# Altium footprint library Silabs Footprint.PcbLib: 7 footprints
Each footprint in its own frame and in the unit in brackets; x right, y up, seen from the top. Pads: shape width x height; smd on the part's side, far side on the other; paste and mask are expansions set on the pad; w line width, h text height; cw(c..) or ccw(c..) is an arc to the next point about the centre after c.
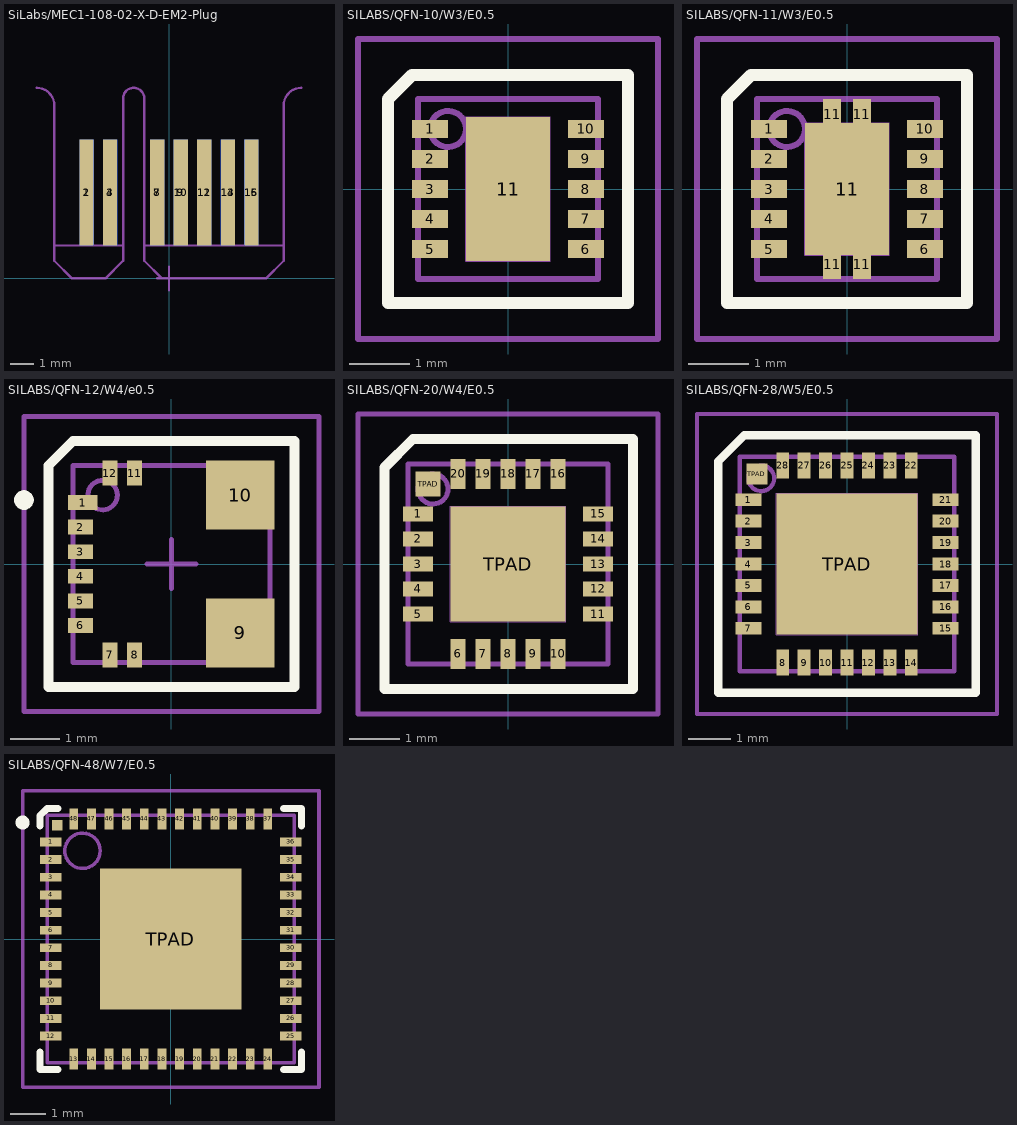
[diagram p0: the footprints below, top view; thin cyan lines are the x and y axes]

## SiLabs/MEC1-108-02-X-D-EM2-Plug [mm] "Samtec MEC1 Series; Technology PCB Edge; Body 22.45x13.36x6.81mm; Pitch 1.00mm;"
pads (14):
  rect 0.6x4.5 smd mask+0.1: 1(-3.5,3.65) 3(-2.5,3.65) 7(-0.5,3.65) 9(0.5,3.65) 11(1.5,3.65) 13(2.5,3.65) 15(3.5,3.65)
  rect 0.6x4.5 smd far side mask+0.1: 2(-3.5,3.65) 4(-2.5,3.65) 8(-0.5,3.65) 10(0.5,3.65) 12(1.5,3.65) 14(2.5,3.65) 16(3.5,3.65)
Top Solder:
  rectangle: -4.9,0 4.9,6
Bottom Solder:
  rectangle: -4.9,0 4.9,6
Dimension:
  lines w0.1: -5.625,8.1 cw(c-5.625,7.35) -4.875,7.35 -4.875,0.75 -4.125,0 -2.7,0 -1.95,0.75 -1.95,7.65 cw(c-1.5,7.65) -1.05,7.65 -1.05,0.75 -0.3,0 4.125,0 4.875,0.75 4.875,7.35 cw(c5.625,7.35) 5.625,8.1 ; -4.875,1.4 -1.95,1.4 ; -1.05,1.4 4.875,1.4
  text "PCB Edge" at -4.2,1.6 h0.5
Courtyard:
  lines w0.1: -0.5,0 0.5,0 ; 0,-0.5 0,0.5

## SILABS/QFN-10/W3/E0.5 [mm] "SiLabs Specific; QFN-10; Body 3.00x3.00x0.90mm; Pitch 0.5mm;"
height 0.9
pads (11):
  rect 0.6x0.3 smd mask+0.1: 1(-1.3,1) 2(-1.3,0.5) 3(-1.3,0) 4(-1.3,-0.5) 5(-1.3,-1) 6(1.3,-1) 7(1.3,-0.5) 8(1.3,0) 9(1.3,0.5) 10(1.3,1)
  rect 1.4x2.4 smd paste-0.7 mask+0: 11(0,0)
Top Overlay:
  lines w0.2: -2,-1.9 2,-1.9 2,1.9 -1.6,1.9 -2,1.5 -2,-1.9
Top Paste:
  rectangle: -0.3,0.35 0.3,0.65
  rectangle: -0.3,-0.15 0.3,0.15
  rectangle: -0.3,-0.65 0.3,-0.35
Package:
  circle w0.1: c-1,1 r0.3
  lines w0.1: -1.5,-1.5 -1.5,1.5 1.5,1.5 1.5,-1.5 -1.5,-1.5
Courtyard:
  lines w0.01: -0.7,-1.2 0.7,-1.2 0.7,1.2 -0.7,1.2 -0.7,-1.2
  lines w0.1: -0.5,0 0.5,0 ; 0,-0.5 0,0.5 ; -2.5,-2.5 -2.5,2.5 2.5,2.5 2.5,-2.5 -2.5,-2.5
  text "COPPER PLANE" at -0.6,1 h0.1
3D body: height 1, standoff 0, extent -1.5,-1.5 1.5,1.5

## SILABS/QFN-11/W3/E0.5 [mm] "SiLabs Specific; QFN-11; Body 3.00x3.00x0.90mm; Pitch 0.5mm;"
height 0.9
pads (15):
  rect 0.6x0.3 smd mask+0.1: 1(-1.3,1) 2(-1.3,0.5) 3(-1.3,0) 4(-1.3,-0.5) 5(-1.3,-1) 6(1.3,-1) 7(1.3,-0.5) 8(1.3,0) 9(1.3,0.5) 10(1.3,1)
  rect 0.3x0.5 smd mask+0: 11(-0.25,-1.25) 11(-0.25,1.25) 11(0.25,-1.25) 11(0.25,1.25)
  rect 1.4x2.2 smd paste-0.7 mask+0: 11(0,0)
Top Overlay:
  lines w0.2: -2,-1.9 -2,1.5 -1.6,1.9 2,1.9 2,-1.9 -2,-1.9
Top Paste:
  rectangle: -0.3,0.35 0.3,0.65
  rectangle: -0.3,-0.15 0.3,0.15
  rectangle: -0.3,-0.65 0.3,-0.35
Package:
  circle w0.1: c-1,1 r0.3
  lines w0.1: -1.5,-1.5 1.5,-1.5 1.5,1.5 -1.5,1.5 -1.5,-1.5
Courtyard:
  lines w0.01: -0.7,-1.1 -0.7,1.1 0.7,1.1 0.7,-1.1 -0.7,-1.1
  lines w0.1: -0.5,0 0.5,0 ; 0,-0.5 0,0.5 ; -2.5,-2.5 2.5,-2.5 2.5,2.5 -2.5,2.5 -2.5,-2.5
  text "COPPER PLANE" at -0.6,0.9 h0.1
3D body: height 1, standoff 0, extent -1.5,-1.5 1.5,1.5

## SILABS/QFN-12/W4/e0.5 [mm] "SiLabs Specific; QFN-12; Body 4.00x4.00x0.85mm; Pitch 0.5mm;"
pads (12):
  rect 0.6x0.3 smd mask+0.1: 1(-1.8,1.25)
  rect 0.5x0.3 smd mask+0.1: 2(-1.85,0.75) 3(-1.85,0.25) 4(-1.85,-0.25) 5(-1.85,-0.75) 6(-1.85,-1.25)
  rect 0.3x0.5 smd mask+0.1: 7(-1.25,-1.85) 8(-0.75,-1.85) 11(-0.75,1.85) 12(-1.25,1.85)
  rect 1.4x1.4 smd mask+0.1: 9(1.4,-1.4) 10(1.4,1.4)
Top Overlay:
  circle w0.2: c-3,1.3 r0.1
  lines w0.2: -2.5,-2.5 -2.5,2 -2,2.5 2.5,2.5 2.5,-2.5 -2.5,-2.5
Package:
  circle w0.1: c-1.4,1.4 r0.3
  lines w0.1: -2,-2 2,-2 2,2 -2,2 -2,-2
Courtyard:
  lines w0.1: -0.5,0 0.5,0 ; 0,-0.5 0,0.5 ; -3,-3 3,-3 3,3 -3,3 -3,-3
3D body: height 0.85, standoff 0, extent -2,-2 2,2

## SILABS/QFN-20/W4/E0.5 [mm] "SiLabs Specific; QFN-20; Body  4.00x4.00x0.75mm; Pitch 0.5mm;"
height 0.75
pads (22):
  rect 0.6x0.3 smd mask+0.1: 1(-1.8,1) 2(-1.8,0.5) 3(-1.8,0) 4(-1.8,-0.5) 5(-1.8,-1) 11(1.8,-1) 12(1.8,-0.5) 13(1.8,0) 14(1.8,0.5) 15(1.8,1)
  rect 0.3x0.6 smd mask+0.1: 6(-1,-1.8) 7(-0.5,-1.8) 8(0,-1.8) 9(0.5,-1.8) 10(1,-1.8) 16(1,1.8) 17(0.5,1.8) 18(0,1.8) 19(-0.5,1.8) 20(-1,1.8)
  rect 0.5x0.5 smd mask+0.1: TPAD(-1.6,1.6)
  rect 2.3x2.3 smd paste-1.65 mask+0: TPAD(0,0)
Top Overlay:
  lines w0.2: -2.475,-2.5 2.5,-2.5 2.5,2.5 -1.9,2.5 -2.475,1.925 -2.475,-2.5
Top Paste:
  rectangle: -0.8,0.6 -0.2,0.9
  rectangle: 0.2,0.6 0.8,0.9
  rectangle: -0.8,0.1 -0.2,0.4
  rectangle: 0.2,0.1 0.8,0.4
  rectangle: -0.8,-0.4 -0.2,-0.1
  rectangle: 0.2,-0.4 0.8,-0.1
  rectangle: -0.8,-0.9 -0.2,-0.6
  rectangle: 0.2,-0.9 0.8,-0.6
Package:
  circle w0.1: c-1.5,1.5 r0.3
  lines w0.1: -2,-2 2,-2 2,2 -2,2 -2,-2
Courtyard:
  lines w0.01: -1.15,-1.15 -1.15,1.15 1.15,1.15 1.15,-1.15 -1.15,-1.15
  lines w0.1: -0.5,0 0.5,0 ; 0,-0.5 0,0.5 ; -3,-3 3,-3 3,3 -3,3 -3,-3
  text "COPPER PLANE" at -1,1 h0.1
3D body: height 1, standoff 0, extent -2,-2 2,2

## SILABS/QFN-28/W5/E0.5 [mm] "SiLabs Specific; QFN-28; Body 5.00x5.00x0.90mm; Pitch 0.5mm;"
height 0.9
pads (30):
  rect 0.6x0.3 smd mask+0.1: 1(-2.3,1.5) 2(-2.3,1) 3(-2.3,0.5) 4(-2.3,0) 5(-2.3,-0.5) 6(-2.3,-1) 7(-2.3,-1.5) 15(2.3,-1.5) 16(2.3,-1) 17(2.3,-0.5) 18(2.3,0) 19(2.3,0.5) 20(2.3,1) 21(2.3,1.5)
  rect 0.3x0.6 smd mask+0.1: 8(-1.5,-2.3) 9(-1,-2.3) 10(-0.5,-2.3) 11(0,-2.3) 12(0.5,-2.3) 13(1,-2.3) 14(1.5,-2.3) 22(1.5,2.3) 23(1,2.3) 24(0.5,2.3) 25(0,2.3) 26(-0.5,2.3) 27(-1,2.3) 28(-1.5,2.3)
  rect 0.5x0.5 smd mask+0.1: TPAD(-2.1,2.1)
  rect 3.3x3.3 smd paste-1.65 mask+0: TPAD(0,0)
Top Overlay:
  lines w0.2: -3,-3 -3,2.4 -2.4,3 3,3 3,-3 -3,-3
Top Paste:
  rectangle: 0.7,-1.4 1.3,-1.1
  rectangle: -0.3,-1.4 0.3,-1.1
  rectangle: -1.3,-1.4 -0.7,-1.1
  rectangle: 0.7,-0.9 1.3,-0.6
  rectangle: -0.3,-0.9 0.3,-0.6
  rectangle: -1.3,-0.9 -0.7,-0.6
  rectangle: 0.7,-0.4 1.3,-0.1
  rectangle: -0.3,-0.4 0.3,-0.1
  rectangle: -1.3,-0.4 -0.7,-0.1
  rectangle: 0.7,0.1 1.3,0.4
  rectangle: -0.3,0.1 0.3,0.4
  rectangle: -1.3,0.1 -0.7,0.4
  rectangle: 0.7,0.6 1.3,0.9
  rectangle: -0.3,0.6 0.3,0.9
  rectangle: -1.3,0.6 -0.7,0.9
  rectangle: 0.7,1.1 1.3,1.4
  rectangle: -0.3,1.1 0.3,1.4
  rectangle: -1.3,1.1 -0.7,1.4
Package:
  circle w0.1: c-2,2 r0.3
  lines w0.1: -2.5,-2.5 2.5,-2.5 2.5,2.5 -2.5,2.5 -2.5,-2.5
Courtyard:
  lines w0.01: -1.65,-1.65 1.65,-1.65 1.65,1.65 -1.65,1.65 -1.65,-1.65
  lines w0.1: -0.5,0 0.5,0 ; 0,-0.5 0,0.5 ; -3.5,-3.5 3.5,-3.5 3.5,3.5 -3.5,3.5 -3.5,-3.5
  text "COPPER PLANE" at -1.5,1.5 h0.1
3D body: height 1, standoff 0, extent -2.5,-2.5 2.5,2.5

## SILABS/QFN-48/W7/E0.5 [mm] "SiLabs Specific; QFN-48; JEDEC MO-220-VKKD-4; Body 7.0x7.0x1.00mm; Pitch 0.5mm"
height 1
pads (50):
  rect 0.6x0.25 smd mask+0.1: 1(-3.4,2.75) 2(-3.4,2.25) 3(-3.4,1.75) 4(-3.4,1.25) 5(-3.4,0.75) 6(-3.4,0.25) 7(-3.4,-0.25) 8(-3.4,-0.75) 9(-3.4,-1.25) 10(-3.4,-1.75) 11(-3.4,-2.25) 12(-3.4,-2.75) 25(3.4,-2.75) 26(3.4,-2.25) 27(3.4,-1.75) 28(3.4,-1.25) 29(3.4,-0.75) 30(3.4,-0.25) 31(3.4,0.25) 32(3.4,0.75) 33(3.4,1.25) 34(3.4,1.75) 35(3.4,2.25) 36(3.4,2.75)
  rect 0.25x0.6 smd mask+0.1: 13(-2.75,-3.4) 14(-2.25,-3.4) 15(-1.75,-3.4) 16(-1.25,-3.4) 17(-0.75,-3.4) 18(-0.25,-3.4) 19(0.25,-3.4) 20(0.75,-3.4) 21(1.25,-3.4) 22(1.75,-3.4) 23(2.25,-3.4) 24(2.75,-3.4) 37(2.75,3.4) 38(2.25,3.4) 39(1.75,3.4) 40(1.25,3.4) 41(0.75,3.4) 42(0.25,3.4) 43(-0.25,3.4) 44(-0.75,3.4) 45(-1.25,3.4) 46(-1.75,3.4) 47(-2.25,3.4) 48(-2.75,3.4)
  rect 0.3x0.3 smd paste-0.025 mask+0.1: TPAD(-3.22,3.22)
  rect 4x4 smd mask+0.1: TPAD(0,0)
Top Overlay:
  circle w0.2: c-4.2,3.3 r0.1
  lines w0.2: -3.7,-3.2 -3.7,-3.7 -3.2,-3.7 ; -3.7,3.2 -3.7,3.5 -3.5,3.7 -3.2,3.7 ; 3.2,-3.7 3.7,-3.7 3.7,-3.2 ; 3.2,3.7 3.7,3.7 3.7,3.2
Package:
  circle w0.1: c-2.5,2.5 r0.5
  lines w0.1: -3.5,-3.5 -3.5,3.5 3.5,3.5 3.5,-3.5 -3.5,-3.5
Courtyard:
  lines w0.1: -0.5,0 0.5,0 ; 0,-0.5 0,0.5 ; -4.2,-4.2 -4.2,4.2 4.2,4.2 4.2,-4.2 -4.2,-4.2
3D body: height 1, standoff 0, extent -3.5,-3.5 3.5,3.5